# EAGLE library part U-BLOX_ZED_F9K (library f9k)
u-blox ZED-F9K ADR GPS Unit with Real Time Kinematics (RTK) and internal IMU = Automotive Dead Reckoning
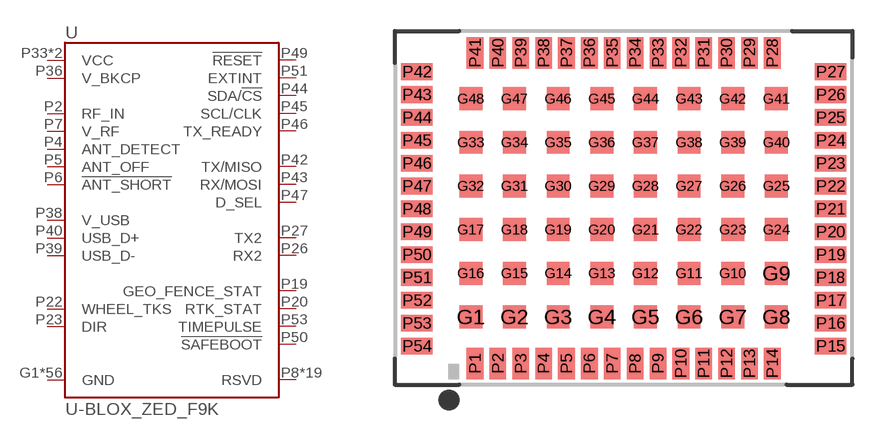
[diagram p0: symbol with the pads of UBLOX_ZED_F9K; footprint UBLOX_ZED_F9K]

Designator prefix U

## U-BLOX_ZED_F9K (PROD_ID: IC-14475)  [UBLOX_ZED_F9K]
G1  GND  pwr
G2  GND  pwr
G3  GND  pwr
G4  GND  pwr
G5  GND  pwr
G6  GND  pwr
G7  GND  pwr
G8  GND  pwr
G9  GND  pwr
G10  GND  pwr
G11  GND  pwr
G12  GND  pwr
G13  GND  pwr
G14  GND  pwr
G15  GND  pwr
G16  GND  pwr
G17  GND  pwr
G18  GND  pwr
G19  GND  pwr
G20  GND  pwr
G21  GND  pwr
G22  GND  pwr
G23  GND  pwr
G24  GND  pwr
G25  GND  pwr
G26  GND  pwr
G27  GND  pwr
G28  GND  pwr
G29  GND  pwr
G30  GND  pwr
G31  GND  pwr
G32  GND  pwr
G33  GND  pwr
G34  GND  pwr
G35  GND  pwr
G36  GND  pwr
G37  GND  pwr
G38  GND  pwr
G39  GND  pwr
G40  GND  pwr
G41  GND  pwr
G42  GND  pwr
G43  GND  pwr
G44  GND  pwr
G45  GND  pwr
G46  GND  pwr
G47  GND  pwr
G48  GND  pwr
P1  GND  pwr
P2  RF_IN  in
P3  GND  pwr
P4  ANT_DETECT  in
P5  ANT_OFF  out
P6  !ANT_SHORT!  out
P7  V_RF  out
P8  RSVD  nc
P9  RSVD  nc
P10  RSVD  nc
P11  RSVD  nc
P12  GND  pwr
P13  RSVD  nc
P14  GND  pwr
P15  RSVD  nc
P16  RSVD  nc
P17  RSVD  nc
P18  RSVD  nc
P19  GEO_FENCE_STAT  out
P20  RTK_STAT  out
P21  RSVD  nc
P22  WHEEL_TKS  in
P23  DIR  in
P24  RSVD  nc
P25  RSVD  nc
P26  RX2  in
P27  TX2  out
P28  RSVD  nc
P29  RSVD  nc
P30  RSVD  nc
P31  RSVD  nc
P32  GND  pwr
P33  VCC  pwr
P34  VCC  pwr
P35  RSVD  nc
P36  V_BKCP  pwr
P37  GND  pwr
P38  V_USB  pwr
P39  USB_D-
P40  USB_D+
P41  GND  pwr
P42  TX/MISO
P43  RX/MOSI
P44  SDA/!CS!
P45  SCL/CLK
P46  TX_READY
P47  D_SEL
P48  GND  pwr
P49  !RESET!
P50  !SAFEBOOT!  in
P51  EXTINT
P52  RSVD  nc
P53  TIMEPULSE  out
P54  RSVD  nc

## Footprint UBLOX_ZED_F9K (pad centres in mm)
u-blox ZED-F9K ADR GPS Unit with Real Time Kinematics (RTK) and internal IMU = Automotive Dead Reckoning Mechanical Specification Physical Module: 22mm x 17mm Peripheral Pad Size: .8mm x 1.5mm Peripheral Pad Pitch: 1.1mm Total Peripheral Pins: 54 Internal Pad Size: 1.1mm Internal Pad Pitch: 2.1mm Total Internal Pins: 48 (All Ground)
smd 1.1 x 1.1: G1 -7.312,-5.37; G2 -5.212,-5.37; G3 -3.112,-5.37; G4 -1.012,-5.37; G5 1.088,-5.37; G6 3.188,-5.37; G7 5.288,-5.37; G8 7.388,-5.37; G9 7.388,-3.27; G10 5.288,-3.27; G11 3.188,-3.27; G12 1.088,-3.27; G13 -1.012,-3.27; G14 -3.112,-3.27; G15 -5.212,-3.27; G16 -7.312,-3.27; G17 -7.312,-1.17; G18 -5.212,-1.17; G19 -3.112,-1.17; G20 -1.012,-1.17; G21 1.088,-1.17; G22 3.188,-1.17; G23 5.288,-1.17; G24 7.388,-1.17; G25 7.388,0.93; G26 5.288,0.93; G27 3.188,0.93; G28 1.088,0.93; G29 -1.012,0.93; G30 -3.112,0.93; G31 -5.212,0.93; G32 -7.312,0.93; G33 -7.312,3.03; G34 -5.212,3.03; G35 -3.112,3.03; G36 -1.012,3.03; G37 1.088,3.03; G38 3.188,3.03; G39 5.288,3.03; G40 7.388,3.03; G41 7.388,5.13; G42 5.288,5.13; G43 3.188,5.13; G44 1.088,5.13; G45 -1.012,5.13; G46 -3.112,5.13; G47 -5.212,5.13; G48 -7.312,5.13
smd 0.8 x 1.5: P1 -7.112,-7.62; P2 -6.012,-7.62; P3 -4.912,-7.62; P4 -3.812,-7.62; P5 -2.712,-7.62; P6 -1.612,-7.62; P7 -0.512,-7.62; P8 0.588,-7.62; P9 1.688,-7.62; P10 2.788,-7.62; P11 3.888,-7.62; P12 4.988,-7.62; P13 6.088,-7.62; P14 7.188,-7.62; P28 7.188,7.33; P29 6.088,7.33; P30 4.988,7.33; P31 3.888,7.33; P32 2.788,7.33; P33 1.688,7.33; P34 0.588,7.33; P35 -0.512,7.33; P36 -1.612,7.33; P37 -2.712,7.33; P38 -3.812,7.33; P39 -4.912,7.33; P40 -6.012,7.33; P41 -7.112,7.33
smd 1.5 x 0.8: P15 9.988,-6.77; P16 9.988,-5.67; P17 9.988,-4.57; P18 9.988,-3.47; P19 9.988,-2.37; P20 9.988,-1.27; P21 9.988,-0.17; P22 9.988,0.93; P23 9.988,2.03; P24 9.988,3.13; P25 9.988,4.23; P26 9.988,5.33; P27 9.988,6.43; P42 -9.912,6.43; P43 -9.912,5.33; P44 -9.912,4.23; P45 -9.912,3.13; P46 -9.912,2.03; P47 -9.912,0.93; P48 -9.912,-0.17; P49 -9.912,-1.27; P50 -9.912,-2.37; P51 -9.912,-3.47; P52 -9.912,-4.57; P53 -9.912,-5.67; P54 -9.912,-6.77